# EAGLE library part SST39SF010A-70-4C-NHE (library memories)
1MB Flash
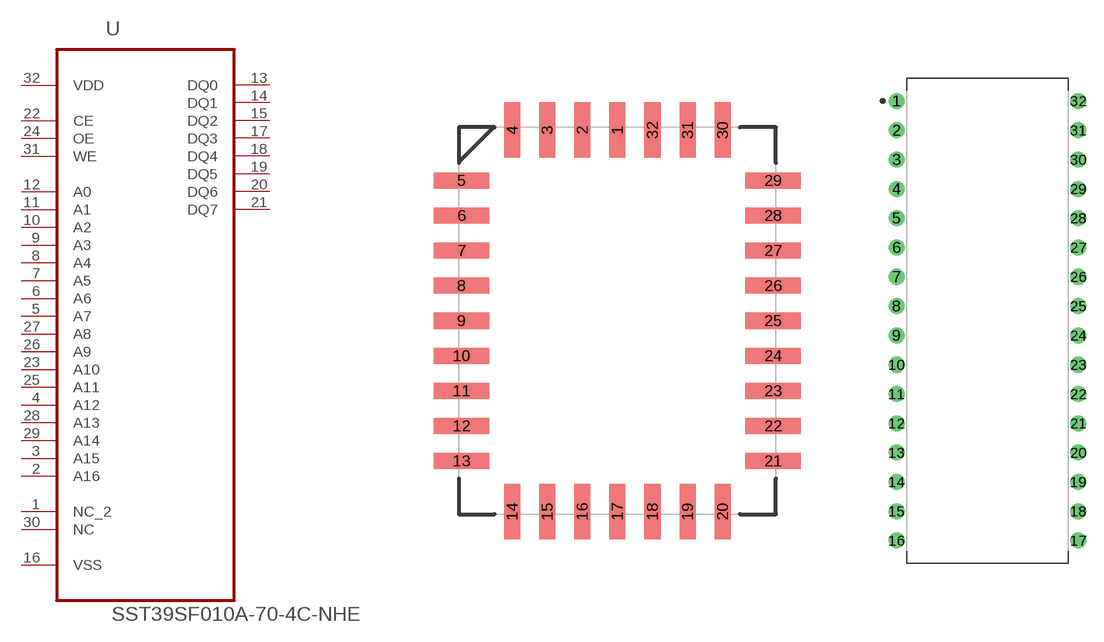
[diagram p5: symbol with the pads of PLCC127P1244X1498X357-32N; footprints PLCC127P1244X1498X357-32N, DIP1574W53P254L4191H508Q32B]

Designator prefix U

## SST39SF010A-70-4C-NHE (AVAILABILITY: Unavailable; DESCRIPTION: SST39SF Series 1 Mbit 128 K x 8 5 V Multi-Purpose Flash - PLCC-32; MF: Microchip; MP: SST39SF010A-70-4C-NHE; PACKAGE: PLCC-32 Microchip; PRICE: None)  [PLCC127P1244X1498X357-32N]
1  NC_2  nc
2  A16  in
3  A15  in
4  A12  in
5  A7  in
6  A6  in
7  A5  in
8  A4  in
9  A3  in
10  A2  in
11  A1  in
12  A0  in
13  DQ0  out
14  DQ1  out
15  DQ2  out
16  VSS  pas
17  DQ3  out
18  DQ4  out
19  DQ5  out
20  DQ6  out
21  DQ7  out
22  CE  in
23  A10  in
24  OE  in
25  A11  in
26  A9  in
27  A8  in
28  A13  in
29  A14  in
30  NC  nc
31  WE  in
32  VDD  pwr

## SST39SF010A-70-4C-NHEMICROCHIP-PDIP-PH (DESCRIPTION: SST39SF Series 1 Mbit 128 K x 8 5 V Multi-Purpose Flash - PLCC-32; MP: SST39SF010A-70-4C-NHE)  [DIP1574W53P254L4191H508Q32B]
1  NC  nc
2  A16  in
3  A15  in
4  A12  in
5  A7  in
6  A6  in
7  A5  in
8  A4  in
9  A3  in
10  A2  in
11  A1  in
12  A0  in
13  DQ0  out
14  DQ1  out
15  DQ2  out
16  VSS  pas
17  DQ3  out
18  DQ4  out
19  DQ5  out
20  DQ6  out
21  DQ7  out
22  CE  in
23  A10  in
24  OE  in
25  A11  in
26  A9  in
27  A8  in
28  A13  in
29  A14  in
30  NC_2  nc
31  WE  in
32  VDD  pwr

## Footprint PLCC127P1244X1498X357-32N (pad centres in mm)
smd 0.584 x 2.007: 1 0,6.909; 2 -1.27,6.909; 3 -2.54,6.909; 4 -3.81,6.909; 14 -3.81,-6.909; 15 -2.54,-6.909; 16 -1.27,-6.909; 17 0,-6.909; 18 1.27,-6.909; 19 2.54,-6.909; 20 3.81,-6.909; 30 3.81,6.909; 31 2.54,6.909; 32 1.27,6.909
smd 2.007 x 0.584: 5 -5.639,5.08; 6 -5.639,3.81; 7 -5.639,2.54; 8 -5.639,1.27; 9 -5.639,0; 10 -5.639,-1.27; 11 -5.639,-2.54; 12 -5.639,-3.81; 13 -5.639,-5.08; 21 5.639,-5.08; 22 5.639,-3.81; 23 5.639,-2.54; 24 5.639,-1.27; 25 5.639,0; 26 5.639,1.27; 27 5.639,2.54; 28 5.639,3.81; 29 5.639,5.08

## Footprint DIP1574W53P254L4191H508Q32B (pad centres in mm)
32-DIP, 2.54 mm (0.10 in) pitch, 15.75 mm (0.62 in) span, 41.91 X 13.72 X 5.08 mm body 32-pin DIP package with 2.54 mm (0.10 in) pitch, 15.75 mm (0.62 in) span with body size 41.91 X 13.72 X 5.08 mm
drill 0.8 pad 1.388: 1 -7.874,19.05; 2 -7.874,16.51; 3 -7.874,13.97; 4 -7.874,11.43; 5 -7.874,8.89; 6 -7.874,6.35; 7 -7.874,3.81; 8 -7.874,1.27; 9 -7.874,-1.27; 10 -7.874,-3.81; 11 -7.874,-6.35; 12 -7.874,-8.89; 13 -7.874,-11.43; 14 -7.874,-13.97; 15 -7.874,-16.51; 16 -7.874,-19.05; 17 7.874,-19.05; 18 7.874,-16.51; 19 7.874,-13.97; 20 7.874,-11.43; 21 7.874,-8.89; 22 7.874,-6.35; 23 7.874,-3.81; 24 7.874,-1.27; 25 7.874,1.27; 26 7.874,3.81; 27 7.874,6.35; 28 7.874,8.89; 29 7.874,11.43; 30 7.874,13.97; 31 7.874,16.51; 32 7.874,19.05